# EAGLE library part SENSOR_VL53L0X (library akita)
ST Micro's VL53L0X, ToF Distance Sensor
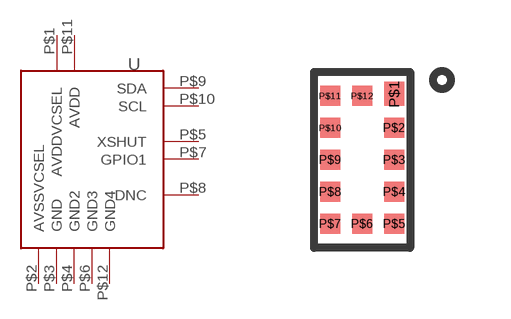
[diagram p179: symbol with the pads of LGA12; footprint LGA12]

Designator prefix U

## SENSOR_VL53L0X  [LGA12]
P$1  AVDDVCSEL
P$2  AVSSVCSEL
P$3  GND
P$4  GND2
P$5  XSHUT
P$6  GND3
P$7  GPIO1
P$8  DNC
P$9  SDA
P$10  SCL
P$11  AVDD
P$12  GND4

## Footprint LGA12 (pad centres in mm)
LGA12
smd 0.5 x 0.6: P$1 0.8,1.65
smd 0.5 x 0.5: P$2 0.8,0.8; P$3 0.8,0; P$4 0.8,-0.8; P$5 0.8,-1.6; P$6 0,-1.6; P$7 -0.8,-1.6; P$8 -0.8,-0.8; P$9 -0.8,0; P$10 -0.8,0.8; P$11 -0.8,1.6; P$12 0,1.6